# EAGLE library part LTC1535* (library linear)
Isolated RS485 Transceiver Source : www.linear.com
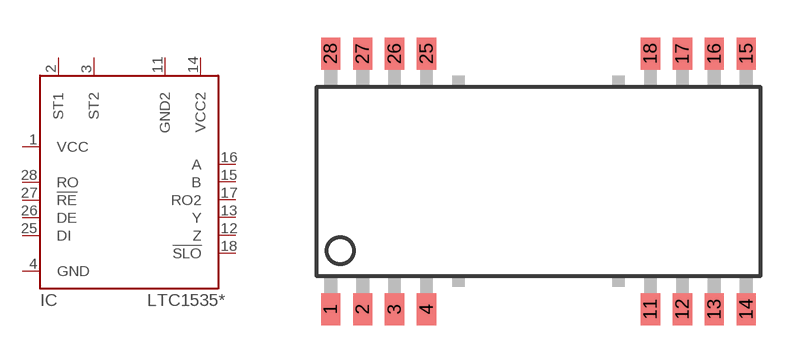
[diagram p290: symbol with the pads of SO28SW; footprint SO28SW]

Designator prefix IC

## LTC1535CSW (MPN: LTC1535CSW; OC_FARNELL: 1609802; OC_NEWARK: 56M1820), LTC1535ISW (MPN: LTC1535ISW; OC_FARNELL: 1498465; OC_NEWARK: 56M1824)  [SO28SW]
1  VCC  in
2  ST1  in
3  ST2  in
4  GND  in
11  GND2  in
12  Z  hiz
13  Y  hiz
14  VCC2  in
15  B  in
16  A  in
17  RO2  out
18  !SLO  in
25  DI  in
26  DE  in
27  !RE  in
28  RO  out

## Footprint SO28SW (pad centres in mm)
28-Lead Plastic Small Outline Isolation Barrier (Wide .300 Inch) Reference LTC DWG # 05-08-1690 Source: www.linear.com
smd 0.762 x 1.27: 1 -8.255,-5.08; 2 -6.985,-5.08; 3 -5.715,-5.08; 4 -4.445,-5.08; 11 4.445,-5.08; 12 5.715,-5.08; 13 6.985,-5.08; 14 8.255,-5.08; 15 8.255,5.08; 16 6.985,5.08; 17 5.715,5.08; 18 4.445,5.08; 25 -4.445,5.08; 26 -5.715,5.08; 27 -6.985,5.08; 28 -8.255,5.08